# Altium footprint library EwgHybrid.PCBLIB: 18 footprints (part 2 of 2)
Each footprint in its own frame and in the unit in brackets; x right, y up, seen from the top. Pads: shape width x height; smd on the part's side, far side on the other; paste and mask are expansions set on the pad; w line width, h text height; cw(c..) or ccw(c..) is an arc to the next point about the centre after c.
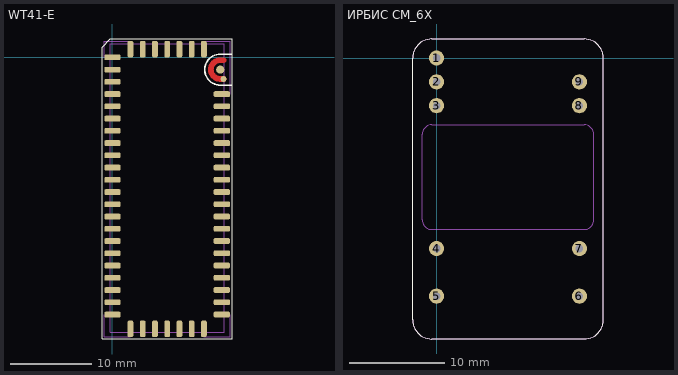
[diagram p1: the footprints below, top view; thin cyan lines are the x and y axes]

## WT41-E [mm]
pads (57):
  rrect50% 2x0.7 smd: 2(0,0) 3(0,-1.5) 4(0,-3) 5(0,-4.5) 6(0,-6) 7(0,-7.5) 8(0,-9) 9(0,-10.5) 10(0,-12) 11(0,-13.5) 12(0,-15) 13(0,-16.5) 14(0,-18) 15(0,-19.5) 16(0,-21) 17(0,-22.5) 18(0,-24) 19(0,-25.5) 20(0,-27) 21(0,-28.5) 22(0,-30) 23(0,-31.5) 31(13.4,-31.5) 32(13.4,-30) 33(13.4,-28.5) 34(13.4,-27) 35(13.4,-25.5) 36(13.4,-24) 37(13.4,-22.5) 38(13.4,-21) 39(13.4,-19.5) 40(13.4,-18) 41(13.4,-16.5) 42(13.4,-15) 43(13.4,-13.5) 44(13.4,-12) 45(13.4,-10.5) 46(13.4,-9) 47(13.4,-7.5) 48(13.4,-6) 49(13.4,-4.5)
  rrect50% 0.7x2 smd: 24(2.2,-33.25) 25(3.7,-33.25) 26(5.2,-33.25) 27(6.7,-33.25) 28(8.2,-33.25) 29(9.7,-33.25) 30(11.2,-33.25) 53(11.2,1) 54(9.7,1) 55(8.2,1) 56(6.7,1) 57(5.2,1) 58(3.7,1) 59(2.2,1)
  round 0.7 smd: 50(13.6,-2.65)
  round 1 smd: 51(13.2,-1.5)
Top Layer:
  lines w0.7: 13.6,-2.65 13.2,-2.65 cw(c13.2,-1.5) 13.2,-0.35 13.6,-0.35
Top Overlay:
  lines w0.1: -1.25,-34.5 14.65,-34.5 14.65,-33.9 14.65,2.25 -0.25,2.25 -1.25,1.25 -1.25,-34.5
  lines w0.2: 14.6,-3.4 14.6,-3.401 13.2,-3.401 cw(c13.2,-1.5) 13.2,0.401 14.6,0.401 ; 14.6,0.4 14.6,0.401
Mechanical 1:
  lines w0.1: -1,-31.5 -1,-34.25 2.2,-34.25 ; -1,-0.05 -1,2 2.2,2 ; 11.2,-34.25 14.4,-34.25 14.4,-31.5 ; 11.2,2 14.4,2 14.4,-4.5 ; -0.3,-33.65 13.7,-33.65 13.7,1.65 -0.3,1.65 -0.3,-33.65
3D body: height 3.45, standoff 0, extent -0.3,-33.65 13.7,1.65

## ИРБИС СМ_6Х [mm]
pads (9):
  round 1.6 hole 0.8: 1(0,0) 2(0,-2.5) 3(0,-5) 4(0,-20) 5(0,-25) 6(15,-25) 7(15,-20) 8(15,-5) 9(15,-2.5)
Top Overlay:
  lines w0.1: -2.5,-27.5 ccw(c-0.5,-27.5) -0.5,-29.5 15.5,-29.5 ccw(c15.5,-27.5) 17.5,-27.5 17.5,0 ccw(c15.5,0) 15.5,2 -0.5,2 ccw(c-0.5,0) -2.5,0 -2.5,-27.5
Mechanical 1:
  lines w0.05: -2.5,-27.5 ccw(c-0.5,-27.5) -0.5,-29.5 15.5,-29.5 ccw(c15.5,-27.5) 17.5,-27.5 17.5,0 ccw(c15.5,0) 15.5,2 -0.5,2 ccw(c-0.5,0) -2.5,0 -2.5,-27.5 ; -1.5,-17 ccw(c-0.5,-17) -0.5,-18 15.5,-18 ccw(c15.5,-17) 16.5,-17 16.5,-8 ccw(c15.5,-8) 15.5,-7 -0.5,-7 ccw(c-0.5,-8) -1.5,-8 -1.5,-17
  text "ИРБИС" at 0.5,-12 h5